# Altium integrated library TI Power Management Linear Regulator Single Channel LDO (0-350mA).IntLib: 1648 symbols (part 10 of 66)
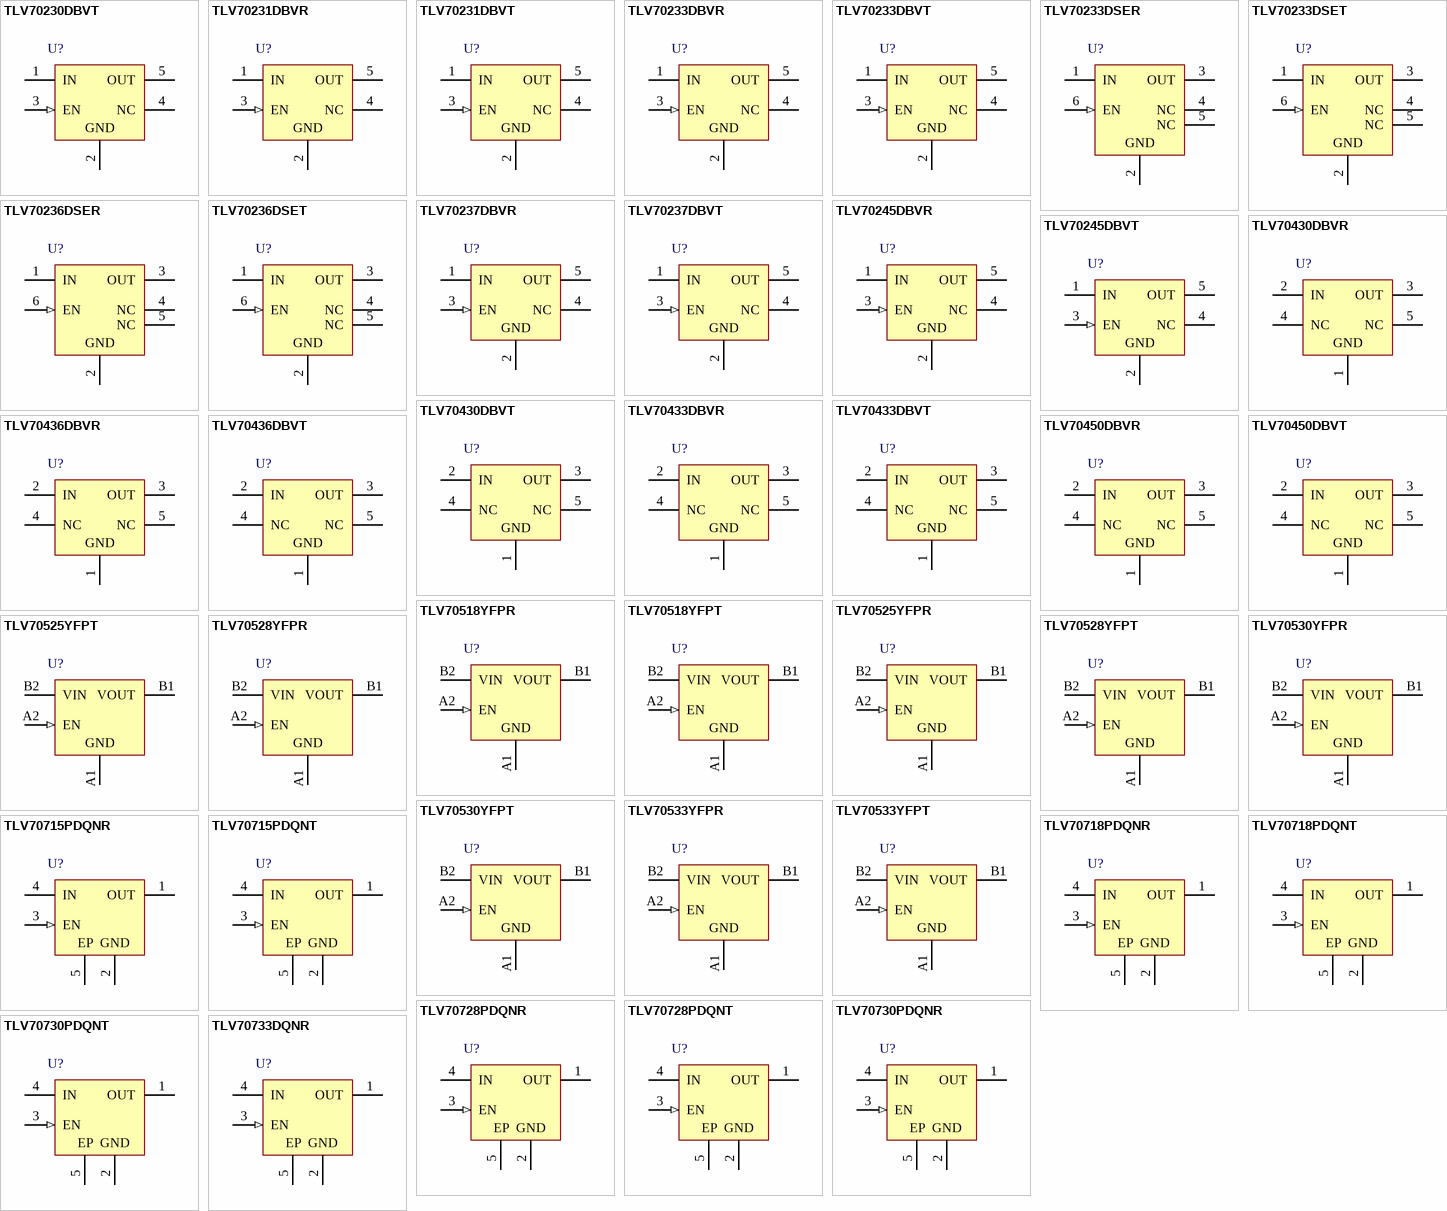
[diagram p51: symbols TLV70230DBVT to TLV70733DQNR]

## TLV70436DBVR
designator U?
Single Output LDO, 150 mA, Fixed 3.6 V Output, 2.5 to 24 V Input, with Ultra-Low IQ, 5-pin SOT-23 (DBV), -40 to 125 degC, Green (RoHS & no Sb/Br); Manufacturer: Texas Instruments; PartNumber: TLV70436DBVR; Accuracy(%): 2; Fixed Output Options(V): 3.6; Iout(Max)(A): 0.15; Iq(Typ)(mA): 0.003; SubFamily: Single Channel LDO; Vdo(Typ)(mV): 400; Vin(Max)(V): 24; Vin(Min)(V): 2.5; DatasheetVersion: SBVS148C; PackageVersion: 4073253-4/K; PackageReference: DBV5; PackageDescription: 5-Pin Plastic Small Outline, Body 1.60 × 2.90 mm, Pitch 0.95 mm; Supplier 1: Digi-Key; Supplier Part Number 1: 296-30551-2-ND; Supplier 2: Digi-Key; Supplier Part Number 2: 296-30551-1-ND; Supplier 3: Digi-Key; Supplier Part Number 3: 296-30551-6-ND; Supplier 4: Newark; Supplier Part Number 4: 06W3534; Supplier 5: Mouser; Supplier Part Number 5: 595-TLV70436DBVR; Eco-Plan: Green (RoHS & no Sb/Br); Vout Adj(Max)(V): 3.6; Vout Adj(Min)(V): 3.6; Mounting Technology: Surface Mount; Code_JEDEC: MO-178; ComponentLink1Description: Manufacturer URL; ComponentLink1URL: http://www.ti.com/; ComponentLink2Description: Datasheet; ComponentLink2URL: http://www.ti.com/general/docs/lit/getliterature.tsp?genericPartNumber=TLV70436&fileType=pdf; ComponentLink3Description: Package Specification; ComponentLink3URL: http://www.ti.com/litv/pdf/mpds018i
footprint TI-DBV5_N (SOT23, 5-Leads, Body 2.9x1.6mm, Pitch 0.95mm, IPC Medium Density)
footprint TI-DBV5_L (SOT23, 5-Leads, Body 2.9x1.6mm, Pitch 0.95mm, IPC High Density)
footprint TI-DBV5_M (SOT23, 5-Leads, Body 2.9x1.6mm, Pitch 0.95mm, IPC Low Density)
pins: 1 GND (power) "Ground", 2 IN (power) "Unregulated input voltage", 3 OUT (power) "Regulated output voltage. Any capacitor 1 uF or greater between this pin and ground is needed for stability", 4 NC "No connection. This pin can be left open or tied to ground for improved thermal performance", 5 NC "No connection. This pin can be left open or tied to ground for improved thermal performance"

## TLV70436DBVT
designator U?
Single Output LDO, 150 mA, Fixed 3.6 V Output, 2.5 to 24 V Input, with Ultra-Low IQ, 5-pin SOT-23 (DBV), -40 to 125 degC, Green (RoHS & no Sb/Br); Manufacturer: Texas Instruments; PartNumber: TLV70436DBVT; Accuracy(%): 2; Fixed Output Options(V): 3.6; Iout(Max)(A): 0.15; Iq(Typ)(mA): 0.003; SubFamily: Single Channel LDO; Vdo(Typ)(mV): 400; Vin(Max)(V): 24; Vin(Min)(V): 2.5; DatasheetVersion: SBVS148C; PackageVersion: 4073253-4/K; PackageReference: DBV5; PackageDescription: 5-Pin Plastic Small Outline, Body 1.60 × 2.90 mm, Pitch 0.95 mm; Supplier 1: Digi-Key; Supplier Part Number 1: TLV70436DBVT-ND; Supplier 2: Farnell; Supplier Part Number 2: 2211353; Supplier 3: Newark; Supplier Part Number 3: 06W3535; Supplier 4: Newark; Supplier Part Number 4: 44W8603; Supplier 5: Mouser; Supplier Part Number 5: 595-TLV70436DBVT; Eco-Plan: Green (RoHS & no Sb/Br); Vout Adj(Max)(V): 3.6; Vout Adj(Min)(V): 3.6; Mounting Technology: Surface Mount; Code_JEDEC: MO-178; ComponentLink1Description: Manufacturer URL; ComponentLink1URL: http://www.ti.com/; ComponentLink2Description: Datasheet; ComponentLink2URL: http://www.ti.com/general/docs/lit/getliterature.tsp?genericPartNumber=TLV70436&fileType=pdf; ComponentLink3Description: Package Specification; ComponentLink3URL: http://www.ti.com/litv/pdf/mpds018i
footprint TI-DBV5_N (SOT23, 5-Leads, Body 2.9x1.6mm, Pitch 0.95mm, IPC Medium Density)
footprint TI-DBV5_L (SOT23, 5-Leads, Body 2.9x1.6mm, Pitch 0.95mm, IPC High Density)
footprint TI-DBV5_M (SOT23, 5-Leads, Body 2.9x1.6mm, Pitch 0.95mm, IPC Low Density)
pins: 1 GND (power) "Ground", 2 IN (power) "Unregulated input voltage", 3 OUT (power) "Regulated output voltage. Any capacitor 1 uF or greater between this pin and ground is needed for stability", 4 NC "No connection. This pin can be left open or tied to ground for improved thermal performance", 5 NC "No connection. This pin can be left open or tied to ground for improved thermal performance"

## TLV70450DBVR
designator U?
Single Output LDO, 150 mA, Fixed 5 V Output, 2.5 to 24 V Input, with Ultra-Low IQ, 5-pin SOT-23 (DBV), -40 to 125 degC, Green (RoHS & no Sb/Br); Manufacturer: Texas Instruments; PartNumber: TLV70450DBVR; Accuracy(%): 2; Fixed Output Options(V): 5; Iout(Max)(A): 0.15; Iq(Typ)(mA): 0.003; SubFamily: Single Channel LDO; Vdo(Typ)(mV): 400; Vin(Max)(V): 24; Vin(Min)(V): 2.5; DatasheetVersion: SBVS148C; PackageVersion: 4073253-4/K; PackageReference: DBV5; PackageDescription: 5-Pin Plastic Small Outline, Body 1.60 × 2.90 mm, Pitch 0.95 mm; Supplier 1: Digi-Key; Supplier Part Number 1: TLV70450DBVR-ND; Supplier 2: Newark; Supplier Part Number 2: 27T6806; Supplier 3: Mouser; Supplier Part Number 3: 595-TLV70450DBVR; Eco-Plan: Green (RoHS & no Sb/Br); Vout Adj(Max)(V): 5; Vout Adj(Min)(V): 5; Mounting Technology: Surface Mount; Code_JEDEC: MO-178; ComponentLink1Description: Manufacturer URL; ComponentLink1URL: http://www.ti.com/; ComponentLink2Description: Datasheet; ComponentLink2URL: http://www.ti.com/general/docs/lit/getliterature.tsp?genericPartNumber=TLV70450&fileType=pdf; ComponentLink3Description: Package Specification; ComponentLink3URL: http://www.ti.com/litv/pdf/mpds018i
footprint TI-DBV5_N (SOT23, 5-Leads, Body 2.9x1.6mm, Pitch 0.95mm, IPC Medium Density)
footprint TI-DBV5_L (SOT23, 5-Leads, Body 2.9x1.6mm, Pitch 0.95mm, IPC High Density)
footprint TI-DBV5_M (SOT23, 5-Leads, Body 2.9x1.6mm, Pitch 0.95mm, IPC Low Density)
pins: 1 GND (power) "Ground", 2 IN (power) "Unregulated input voltage", 3 OUT (power) "Regulated output voltage. Any capacitor 1 uF or greater between this pin and ground is needed for stability", 4 NC "No connection. This pin can be left open or tied to ground for improved thermal performance", 5 NC "No connection. This pin can be left open or tied to ground for improved thermal performance"

## TLV70450DBVT
designator U?
Single Output LDO, 150 mA, Fixed 5 V Output, 2.5 to 24 V Input, with Ultra-Low IQ, 5-pin SOT-23 (DBV), -40 to 125 degC, Green (RoHS & no Sb/Br); Manufacturer: Texas Instruments; PartNumber: TLV70450DBVT; Accuracy(%): 2; Fixed Output Options(V): 5; Iout(Max)(A): 0.15; Iq(Typ)(mA): 0.003; SubFamily: Single Channel LDO; Vdo(Typ)(mV): 400; Vin(Max)(V): 24; Vin(Min)(V): 2.5; DatasheetVersion: SBVS148C; PackageVersion: 4073253-4/K; PackageReference: DBV5; PackageDescription: 5-Pin Plastic Small Outline, Body 1.60 × 2.90 mm, Pitch 0.95 mm; Supplier 1: Digi-Key; Supplier Part Number 1: 296-28171-2-ND; Supplier 2: Digi-Key; Supplier Part Number 2: 296-28171-1-ND; Supplier 3: Digi-Key; Supplier Part Number 3: 296-28171-6-ND; Supplier 4: Newark; Supplier Part Number 4: 27T6807; Supplier 5: Mouser; Supplier Part Number 5: 595-TLV70450DBVT; Eco-Plan: Green (RoHS & no Sb/Br); Vout Adj(Max)(V): 5; Vout Adj(Min)(V): 5; Mounting Technology: Surface Mount; Code_JEDEC: MO-178; ComponentLink1Description: Manufacturer URL; ComponentLink1URL: http://www.ti.com/; ComponentLink2Description: Datasheet; ComponentLink2URL: http://www.ti.com/general/docs/lit/getliterature.tsp?genericPartNumber=TLV70450&fileType=pdf; ComponentLink3Description: Package Specification; ComponentLink3URL: http://www.ti.com/litv/pdf/mpds018i
footprint TI-DBV5_N (SOT23, 5-Leads, Body 2.9x1.6mm, Pitch 0.95mm, IPC Medium Density)
footprint TI-DBV5_L (SOT23, 5-Leads, Body 2.9x1.6mm, Pitch 0.95mm, IPC High Density)
footprint TI-DBV5_M (SOT23, 5-Leads, Body 2.9x1.6mm, Pitch 0.95mm, IPC Low Density)
pins: 1 GND (power) "Ground", 2 IN (power) "Unregulated input voltage", 3 OUT (power) "Regulated output voltage. Any capacitor 1 uF or greater between this pin and ground is needed for stability", 4 NC "No connection. This pin can be left open or tied to ground for improved thermal performance", 5 NC "No connection. This pin can be left open or tied to ground for improved thermal performance"

## TLV70518YFPR
designator U?
Single Output Low Noise LDO, 200 mA, Fixed 1.8 V Output, 2 to 5.5 V Input, with Low IQ, 4-pin DSBGA (YFP), -40 to 125 degC, Green (RoHS & no Sb/Br); Manufacturer: Texas Instruments; PartNumber: TLV70518YFPR; Accuracy(%): 0.5; Fixed Output Options(V): 1.8; Iout(Max)(A): 0.2; Iq(Typ)(mA): 0.03; Rating: Catalog; SubFamily: Single Channel LDO; Vdo(Typ)(mV): 145; Vin(Max)(V): 5.5; Vin(Min)(V): 2; DatasheetVersion: SBVS151C; PackageVersion: 4206986-2/R; PackageReference: YFP4-776X776DE; PackageDescription: 4-Pin Silicon Grid Array, Body 0.776 x 0.776 mm, Pitch 0.4 mm; Supplier 1: Digi-Key; Supplier Part Number 1: 296-30106-2-ND; Supplier 2: Digi-Key; Supplier Part Number 2: 296-30106-1-ND; Supplier 3: Digi-Key; Supplier Part Number 3: 296-30106-6-ND; Supplier 4: Mouser; Supplier Part Number 4: 595-TLV70518YFPR; Eco-Plan: Green (RoHS & no Sb/Br); Vout Adj(Max)(V): 1.8; Vout Adj(Min)(V): 1.8; Mounting Technology: Surface Mount; ComponentLink1Description: Manufacturer URL; ComponentLink1URL: http://www.ti.com/; ComponentLink2Description: Datasheet; ComponentLink2URL: http://www.ti.com/general/docs/lit/getliterature.tsp?genericPartNumber=TLV70518&fileType=pdf; ComponentLink3Description: Package Specification; ComponentLink3URL: http://www.ti.com/lit/ds/symlink/tlv70518.pdf
footprint TI-YFP4-776X776DE (BGA, 4-Balls, Body 7.76x7.76mm, Pitch 0.4mm)
pins: A1 GND (power) "Ground pin", A2 EN (in) "Enable pin. Driving EN over 0.9 V turns on the regulator. Driving EN below 0.4 V puts the regulator into shutdown mode, thus reducing operating current to 1 uA, nominal.", B1 VOUT (power) "Regulated output voltage pin. A small 1-uF ceramic capacitor is required to be placed from this pin to ground to assure stability. See the Input and Output Capacitor Requirements section for more details.", B2 VIN (power) "Input pin. A small 1-uF ceramic capacitor is recommended to be placed from this pin to ground for good transient performance. See the Input and Output Capacitor Requirements section for more details."

## TLV70518YFPT
designator U?
Single Output Low Noise LDO, 200 mA, Fixed 1.8 V Output, 2 to 5.5 V Input, with Low IQ, 4-pin DSBGA (YFP), -40 to 125 degC, Green (RoHS & no Sb/Br); Manufacturer: Texas Instruments; PartNumber: TLV70518YFPT; Accuracy(%): 0.5; Fixed Output Options(V): 1.8; Iout(Max)(A): 0.2; Iq(Typ)(mA): 0.03; Rating: Catalog; SubFamily: Single Channel LDO; Vdo(Typ)(mV): 145; Vin(Max)(V): 5.5; Vin(Min)(V): 2; DatasheetVersion: SBVS151C; PackageVersion: 4206986-2/R; PackageReference: YFP4-776X776DE; PackageDescription: 4-Pin Silicon Grid Array, Body 0.776 x 0.776 mm, Pitch 0.4 mm; Supplier 1: Digi-Key; Supplier Part Number 1: 296-30170-2-ND; Supplier 2: Digi-Key; Supplier Part Number 2: 296-30170-1-ND; Supplier 3: Digi-Key; Supplier Part Number 3: 296-30170-6-ND; Supplier 4: Farnell; Supplier Part Number 4: 2078541; Supplier 5: Newark; Supplier Part Number 5: 82T9714; Supplier 6: Mouser; Supplier Part Number 6: 595-TLV70518YFPT; Eco-Plan: Green (RoHS & no Sb/Br); Vout Adj(Max)(V): 1.8; Vout Adj(Min)(V): 1.8; Mounting Technology: Surface Mount; ComponentLink1Description: Manufacturer URL; ComponentLink1URL: http://www.ti.com/; ComponentLink2Description: Datasheet; ComponentLink2URL: http://www.ti.com/general/docs/lit/getliterature.tsp?genericPartNumber=TLV70518&fileType=pdf; ComponentLink3Description: Package Specification; ComponentLink3URL: http://www.ti.com/lit/ds/symlink/tlv70518.pdf
footprint TI-YFP4-776X776DE (BGA, 4-Balls, Body 7.76x7.76mm, Pitch 0.4mm)
pins: A1 GND (power) "Ground pin", A2 EN (in) "Enable pin. Driving EN over 0.9 V turns on the regulator. Driving EN below 0.4 V puts the regulator into shutdown mode, thus reducing operating current to 1 uA, nominal.", B1 VOUT (power) "Regulated output voltage pin. A small 1-uF ceramic capacitor is required to be placed from this pin to ground to assure stability. See the Input and Output Capacitor Requirements section for more details.", B2 VIN (power) "Input pin. A small 1-uF ceramic capacitor is recommended to be placed from this pin to ground for good transient performance. See the Input and Output Capacitor Requirements section for more details."

## TLV70525YFPR
designator U?
Single Output Low Noise LDO, 200 mA, Fixed 2.5 V Output, 2 to 5.5 V Input, with Low IQ, 4-pin DSBGA (YFP), -40 to 125 degC, Green (RoHS & no Sb/Br); Manufacturer: Texas Instruments; PartNumber: TLV70525YFPR; Accuracy(%): 0.5; Fixed Output Options(V): 2.5; Iout(Max)(A): 0.2; Iq(Typ)(mA): 0.03; Rating: Catalog; SubFamily: Single Channel LDO; Vdo(Typ)(mV): 145; Vin(Max)(V): 5.5; Vin(Min)(V): 2; DatasheetVersion: SBVS151C; PackageVersion: 4206986-2/R; PackageReference: YFP4-776X776DE; PackageDescription: 4-Pin Silicon Grid Array, Body 0.776 x 0.776 mm, Pitch 0.4 mm; Supplier 1: Digi-Key; Supplier Part Number 1: 296-30221-2-ND; Supplier 2: Digi-Key; Supplier Part Number 2: 296-30221-1-ND; Supplier 3: Digi-Key; Supplier Part Number 3: 296-30221-6-ND; Supplier 4: Farnell; Supplier Part Number 4: 2095833; Supplier 5: Newark; Supplier Part Number 5: 82T4190; Supplier 6: Mouser; Supplier Part Number 6: 595-TLV70525YFPR; Eco-Plan: Green (RoHS & no Sb/Br); Vout Adj(Max)(V): 2.5; Vout Adj(Min)(V): 2.5; Mounting Technology: Surface Mount; ComponentLink1Description: Manufacturer URL; ComponentLink1URL: http://www.ti.com/; ComponentLink2Description: Datasheet; ComponentLink2URL: http://www.ti.com/general/docs/lit/getliterature.tsp?genericPartNumber=TLV70525&fileType=pdf; ComponentLink3Description: Package Specification; ComponentLink3URL: http://www.ti.com/lit/ds/symlink/tlv70518.pdf
footprint TI-YFP4-776X776DE (BGA, 4-Balls, Body 7.76x7.76mm, Pitch 0.4mm)
pins: A1 GND (power) "Ground pin", A2 EN (in) "Enable pin. Driving EN over 0.9 V turns on the regulator. Driving EN below 0.4 V puts the regulator into shutdown mode, thus reducing operating current to 1 uA, nominal.", B1 VOUT (power) "Regulated output voltage pin. A small 1-uF ceramic capacitor is required to be placed from this pin to ground to assure stability. See the Input and Output Capacitor Requirements section for more details.", B2 VIN (power) "Input pin. A small 1-uF ceramic capacitor is recommended to be placed from this pin to ground for good transient performance. See the Input and Output Capacitor Requirements section for more details."

## TLV70525YFPT
designator U?
Single Output Low Noise LDO, 200 mA, Fixed 2.5 V Output, 2 to 5.5 V Input, with Low IQ, 4-pin DSBGA (YFP), -40 to 125 degC, Green (RoHS & no Sb/Br); Manufacturer: Texas Instruments; PartNumber: TLV70525YFPT; Accuracy(%): 0.5; Fixed Output Options(V): 2.5; Iout(Max)(A): 0.2; Iq(Typ)(mA): 0.03; Rating: Catalog; SubFamily: Single Channel LDO; Vdo(Typ)(mV): 145; Vin(Max)(V): 5.5; Vin(Min)(V): 2; DatasheetVersion: SBVS151C; PackageVersion: 4206986-2/R; PackageReference: YFP4-776X776DE; PackageDescription: 4-Pin Silicon Grid Array, Body 0.776 x 0.776 mm, Pitch 0.4 mm; Supplier 1: Digi-Key; Supplier Part Number 1: 296-30262-2-ND; Supplier 2: Digi-Key; Supplier Part Number 2: 296-30262-1-ND; Supplier 3: Digi-Key; Supplier Part Number 3: 296-30262-6-ND; Supplier 4: Mouser; Supplier Part Number 4: 595-TLV70525YFPT; Eco-Plan: Green (RoHS & no Sb/Br); Vout Adj(Max)(V): 2.5; Vout Adj(Min)(V): 2.5; Mounting Technology: Surface Mount; ComponentLink1Description: Manufacturer URL; ComponentLink1URL: http://www.ti.com/; ComponentLink2Description: Datasheet; ComponentLink2URL: http://www.ti.com/general/docs/lit/getliterature.tsp?genericPartNumber=TLV70525&fileType=pdf; ComponentLink3Description: Package Specification; ComponentLink3URL: http://www.ti.com/lit/ds/symlink/tlv70518.pdf
footprint TI-YFP4-776X776DE (BGA, 4-Balls, Body 7.76x7.76mm, Pitch 0.4mm)
pins: A1 GND (power) "Ground pin", A2 EN (in) "Enable pin. Driving EN over 0.9 V turns on the regulator. Driving EN below 0.4 V puts the regulator into shutdown mode, thus reducing operating current to 1 uA, nominal.", B1 VOUT (power) "Regulated output voltage pin. A small 1-uF ceramic capacitor is required to be placed from this pin to ground to assure stability. See the Input and Output Capacitor Requirements section for more details.", B2 VIN (power) "Input pin. A small 1-uF ceramic capacitor is recommended to be placed from this pin to ground for good transient performance. See the Input and Output Capacitor Requirements section for more details."

## TLV70528YFPR
designator U?
Single Output Low Noise LDO, 200 mA, Fixed 2.8 V Output, 2 to 5.5 V Input, with Low IQ, 4-pin DSBGA (YFP), -40 to 125 degC, Green (RoHS & no Sb/Br); Manufacturer: Texas Instruments; PartNumber: TLV70528YFPR; Accuracy(%): 0.5; Fixed Output Options(V): 2.8; Iout(Max)(A): 0.2; Iq(Typ)(mA): 0.03; Rating: Catalog; SubFamily: Single Channel LDO; Vdo(Typ)(mV): 145; Vin(Max)(V): 5.5; Vin(Min)(V): 2; DatasheetVersion: SBVS151C; PackageVersion: 4206986-2/R; PackageReference: YFP4-776X776DE; PackageDescription: 4-Pin Silicon Grid Array, Body 0.776 x 0.776 mm, Pitch 0.4 mm; Supplier 1: Digi-Key; Supplier Part Number 1: 296-30107-2-ND; Supplier 2: Digi-Key; Supplier Part Number 2: 296-30107-1-ND; Supplier 3: Digi-Key; Supplier Part Number 3: 296-30107-6-ND; Supplier 4: Newark; Supplier Part Number 4: 76T8058; Supplier 5: Mouser; Supplier Part Number 5: 595-TLV70528YFPR; Eco-Plan: Green (RoHS & no Sb/Br); Vout Adj(Max)(V): 2.8; Vout Adj(Min)(V): 2.8; Mounting Technology: Surface Mount; ComponentLink1Description: Manufacturer URL; ComponentLink1URL: http://www.ti.com/; ComponentLink2Description: Datasheet; ComponentLink2URL: http://www.ti.com/general/docs/lit/getliterature.tsp?genericPartNumber=TLV70528&fileType=pdf; ComponentLink3Description: Package Specification; ComponentLink3URL: http://www.ti.com/lit/ds/symlink/tlv70518.pdf
footprint TI-YFP4-776X776DE (BGA, 4-Balls, Body 7.76x7.76mm, Pitch 0.4mm)
pins: A1 GND (power) "Ground pin", A2 EN (in) "Enable pin. Driving EN over 0.9 V turns on the regulator. Driving EN below 0.4 V puts the regulator into shutdown mode, thus reducing operating current to 1 uA, nominal.", B1 VOUT (power) "Regulated output voltage pin. A small 1-uF ceramic capacitor is required to be placed from this pin to ground to assure stability. See the Input and Output Capacitor Requirements section for more details.", B2 VIN (power) "Input pin. A small 1-uF ceramic capacitor is recommended to be placed from this pin to ground for good transient performance. See the Input and Output Capacitor Requirements section for more details."

## TLV70528YFPT
designator U?
Single Output Low Noise LDO, 200 mA, Fixed 2.8 V Output, 2 to 5.5 V Input, with Low IQ, 4-pin DSBGA (YFP), -40 to 125 degC, Green (RoHS & no Sb/Br); Manufacturer: Texas Instruments; PartNumber: TLV70528YFPT; Accuracy(%): 0.5; Fixed Output Options(V): 2.8; Iout(Max)(A): 0.2; Iq(Typ)(mA): 0.03; Rating: Catalog; SubFamily: Single Channel LDO; Vdo(Typ)(mV): 145; Vin(Max)(V): 5.5; Vin(Min)(V): 2; DatasheetVersion: SBVS151C; PackageVersion: 4206986-2/R; PackageReference: YFP4-776X776DE; PackageDescription: 4-Pin Silicon Grid Array, Body 0.776 x 0.776 mm, Pitch 0.4 mm; Supplier 1: Digi-Key; Supplier Part Number 1: 296-30171-2-ND; Supplier 2: Digi-Key; Supplier Part Number 2: 296-30171-1-ND; Supplier 3: Digi-Key; Supplier Part Number 3: 296-30171-6-ND; Supplier 4: Farnell; Supplier Part Number 4: 2078543; Supplier 5: Newark; Supplier Part Number 5: 82T9715; Supplier 6: Mouser; Supplier Part Number 6: 595-TLV70528YFPT; Eco-Plan: Green (RoHS & no Sb/Br); Vout Adj(Max)(V): 2.8; Vout Adj(Min)(V): 2.8; Mounting Technology: Surface Mount; ComponentLink1Description: Manufacturer URL; ComponentLink1URL: http://www.ti.com/; ComponentLink2Description: Datasheet; ComponentLink2URL: http://www.ti.com/general/docs/lit/getliterature.tsp?genericPartNumber=TLV70528&fileType=pdf; ComponentLink3Description: Package Specification; ComponentLink3URL: http://www.ti.com/lit/ds/symlink/tlv70518.pdf
footprint TI-YFP4-776X776DE (BGA, 4-Balls, Body 7.76x7.76mm, Pitch 0.4mm)
pins: A1 GND (power) "Ground pin", A2 EN (in) "Enable pin. Driving EN over 0.9 V turns on the regulator. Driving EN below 0.4 V puts the regulator into shutdown mode, thus reducing operating current to 1 uA, nominal.", B1 VOUT (power) "Regulated output voltage pin. A small 1-uF ceramic capacitor is required to be placed from this pin to ground to assure stability. See the Input and Output Capacitor Requirements section for more details.", B2 VIN (power) "Input pin. A small 1-uF ceramic capacitor is recommended to be placed from this pin to ground for good transient performance. See the Input and Output Capacitor Requirements section for more details."

## TLV70530YFPR
designator U?
Single Output Low Noise LDO, 200 mA, Fixed 3 V Output, 2 to 5.5 V Input, with Low IQ, 4-pin DSBGA (YFP), -40 to 125 degC, Green (RoHS & no Sb/Br); Manufacturer: Texas Instruments; PartNumber: TLV70530YFPR; Accuracy(%): 0.5; Fixed Output Options(V): 3; Iout(Max)(A): 0.2; Iq(Typ)(mA): 0.03; Rating: Catalog; SubFamily: Single Channel LDO; Vdo(Typ)(mV): 145; Vin(Max)(V): 5.5; Vin(Min)(V): 2; DatasheetVersion: SBVS151C; PackageVersion: 4206986-2/R; PackageReference: YFP4-776X776DE; PackageDescription: 4-Pin Silicon Grid Array, Body 0.776 x 0.776 mm, Pitch 0.4 mm; Supplier 1: Digi-Key; Supplier Part Number 1: 296-30222-2-ND; Supplier 2: Digi-Key; Supplier Part Number 2: 296-30222-1-ND; Supplier 3: Digi-Key; Supplier Part Number 3: 296-30222-6-ND; Supplier 4: Farnell; Supplier Part Number 4: 2095834; Supplier 5: Mouser; Supplier Part Number 5: 595-TLV70530YFPR; Eco-Plan: Green (RoHS & no Sb/Br); Vout Adj(Max)(V): 3; Vout Adj(Min)(V): 3; Mounting Technology: Surface Mount; ComponentLink1Description: Manufacturer URL; ComponentLink1URL: http://www.ti.com/; ComponentLink2Description: Datasheet; ComponentLink2URL: http://www.ti.com/general/docs/lit/getliterature.tsp?genericPartNumber=TLV70530&fileType=pdf; ComponentLink3Description: Package Specification; ComponentLink3URL: http://www.ti.com/lit/ds/symlink/tlv70518.pdf
footprint TI-YFP4-776X776DE (BGA, 4-Balls, Body 7.76x7.76mm, Pitch 0.4mm)
pins: A1 GND (power) "Ground pin", A2 EN (in) "Enable pin. Driving EN over 0.9 V turns on the regulator. Driving EN below 0.4 V puts the regulator into shutdown mode, thus reducing operating current to 1 uA, nominal.", B1 VOUT (power) "Regulated output voltage pin. A small 1-uF ceramic capacitor is required to be placed from this pin to ground to assure stability. See the Input and Output Capacitor Requirements section for more details.", B2 VIN (power) "Input pin. A small 1-uF ceramic capacitor is recommended to be placed from this pin to ground for good transient performance. See the Input and Output Capacitor Requirements section for more details."

## TLV70530YFPT
designator U?
Single Output Low Noise LDO, 200 mA, Fixed 3 V Output, 2 to 5.5 V Input, with Low IQ, 4-pin DSBGA (YFP), -40 to 125 degC, Green (RoHS & no Sb/Br); Manufacturer: Texas Instruments; PartNumber: TLV70530YFPT; Accuracy(%): 0.5; Fixed Output Options(V): 3; Iout(Max)(A): 0.2; Iq(Typ)(mA): 0.03; Rating: Catalog; SubFamily: Single Channel LDO; Vdo(Typ)(mV): 145; Vin(Max)(V): 5.5; Vin(Min)(V): 2; DatasheetVersion: SBVS151C; PackageVersion: 4206986-2/R; PackageReference: YFP4-776X776DE; PackageDescription: 4-Pin Silicon Grid Array, Body 0.776 x 0.776 mm, Pitch 0.4 mm; Supplier 1: Digi-Key; Supplier Part Number 1: 296-30263-2-ND; Supplier 2: Digi-Key; Supplier Part Number 2: 296-30263-1-ND; Supplier 3: Digi-Key; Supplier Part Number 3: 296-30263-6-ND; Supplier 4: Newark; Supplier Part Number 4: 82T4193; Supplier 5: Mouser; Supplier Part Number 5: 595-TLV70530YFPT; Eco-Plan: Green (RoHS & no Sb/Br); Vout Adj(Max)(V): 3; Vout Adj(Min)(V): 3; Mounting Technology: Surface Mount; ComponentLink1Description: Manufacturer URL; ComponentLink1URL: http://www.ti.com/; ComponentLink2Description: Datasheet; ComponentLink2URL: http://www.ti.com/general/docs/lit/getliterature.tsp?genericPartNumber=TLV70530&fileType=pdf; ComponentLink3Description: Package Specification; ComponentLink3URL: http://www.ti.com/lit/ds/symlink/tlv70518.pdf
footprint TI-YFP4-776X776DE (BGA, 4-Balls, Body 7.76x7.76mm, Pitch 0.4mm)
pins: A1 GND (power) "Ground pin", A2 EN (in) "Enable pin. Driving EN over 0.9 V turns on the regulator. Driving EN below 0.4 V puts the regulator into shutdown mode, thus reducing operating current to 1 uA, nominal.", B1 VOUT (power) "Regulated output voltage pin. A small 1-uF ceramic capacitor is required to be placed from this pin to ground to assure stability. See the Input and Output Capacitor Requirements section for more details.", B2 VIN (power) "Input pin. A small 1-uF ceramic capacitor is recommended to be placed from this pin to ground for good transient performance. See the Input and Output Capacitor Requirements section for more details."

## TLV70533YFPR
designator U?
Single Output Low Noise LDO, 200 mA, Fixed 3.3 V Output, 2 to 5.5 V Input, with Low IQ, 4-pin DSBGA (YFP), -40 to 125 degC, Green (RoHS & no Sb/Br); Manufacturer: Texas Instruments; PartNumber: TLV70533YFPR; Accuracy(%): 0.5; Fixed Output Options(V): 3.3; Iout(Max)(A): 0.2; Iq(Typ)(mA): 0.03; Rating: Catalog; SubFamily: Single Channel LDO; Vdo(Typ)(mV): 145; Vin(Max)(V): 5.5; Vin(Min)(V): 2; DatasheetVersion: SBVS151C; PackageVersion: 4206986-2/R; PackageReference: YFP4-776X776DE; PackageDescription: 4-Pin Silicon Grid Array, Body 0.776 x 0.776 mm, Pitch 0.4 mm; Supplier 1: Digi-Key; Supplier Part Number 1: 296-30108-2-ND; Supplier 2: Digi-Key; Supplier Part Number 2: 296-30108-1-ND; Supplier 3: Digi-Key; Supplier Part Number 3: 296-30108-6-ND; Supplier 4: Mouser; Supplier Part Number 4: 595-TLV70533YFPR; Eco-Plan: Green (RoHS & no Sb/Br); Vout Adj(Max)(V): 3.3; Vout Adj(Min)(V): 3.3; Mounting Technology: Surface Mount; ComponentLink1Description: Manufacturer URL; ComponentLink1URL: http://www.ti.com/; ComponentLink2Description: Datasheet; ComponentLink2URL: http://www.ti.com/general/docs/lit/getliterature.tsp?genericPartNumber=TLV70533&fileType=pdf; ComponentLink3Description: Package Specification; ComponentLink3URL: http://www.ti.com/lit/ds/symlink/tlv70518.pdf
footprint TI-YFP4-776X776DE (BGA, 4-Balls, Body 7.76x7.76mm, Pitch 0.4mm)
pins: A1 GND (power) "Ground pin", A2 EN (in) "Enable pin. Driving EN over 0.9 V turns on the regulator. Driving EN below 0.4 V puts the regulator into shutdown mode, thus reducing operating current to 1 uA, nominal.", B1 VOUT (power) "Regulated output voltage pin. A small 1-uF ceramic capacitor is required to be placed from this pin to ground to assure stability. See the Input and Output Capacitor Requirements section for more details.", B2 VIN (power) "Input pin. A small 1-uF ceramic capacitor is recommended to be placed from this pin to ground for good transient performance. See the Input and Output Capacitor Requirements section for more details."

## TLV70533YFPT
designator U?
Single Output Low Noise LDO, 200 mA, Fixed 3.3 V Output, 2 to 5.5 V Input, with Low IQ, 4-pin DSBGA (YFP), -40 to 125 degC, Green (RoHS & no Sb/Br); Manufacturer: Texas Instruments; PartNumber: TLV70533YFPT; Accuracy(%): 0.5; Fixed Output Options(V): 3.3; Iout(Max)(A): 0.2; Iq(Typ)(mA): 0.03; Rating: Catalog; SubFamily: Single Channel LDO; Vdo(Typ)(mV): 145; Vin(Max)(V): 5.5; Vin(Min)(V): 2; DatasheetVersion: SBVS151C; PackageVersion: 4206986-2/R; PackageReference: YFP4-776X776DE; PackageDescription: 4-Pin Silicon Grid Array, Body 0.776 x 0.776 mm, Pitch 0.4 mm; Supplier 1: Digi-Key; Supplier Part Number 1: 296-30172-2-ND; Supplier 2: Digi-Key; Supplier Part Number 2: 296-30172-1-ND; Supplier 3: Digi-Key; Supplier Part Number 3: 296-30172-6-ND; Supplier 4: Farnell; Supplier Part Number 4: 2078548; Supplier 5: Mouser; Supplier Part Number 5: 595-TLV70533YFPT; Eco-Plan: Green (RoHS & no Sb/Br); Vout Adj(Max)(V): 3.3; Vout Adj(Min)(V): 3.3; Mounting Technology: Surface Mount; ComponentLink1Description: Manufacturer URL; ComponentLink1URL: http://www.ti.com/; ComponentLink2Description: Datasheet; ComponentLink2URL: http://www.ti.com/general/docs/lit/getliterature.tsp?genericPartNumber=TLV70533&fileType=pdf; ComponentLink3Description: Package Specification; ComponentLink3URL: http://www.ti.com/lit/ds/symlink/tlv70518.pdf
footprint TI-YFP4-776X776DE (BGA, 4-Balls, Body 7.76x7.76mm, Pitch 0.4mm)
pins: A1 GND (power) "Ground pin", A2 EN (in) "Enable pin. Driving EN over 0.9 V turns on the regulator. Driving EN below 0.4 V puts the regulator into shutdown mode, thus reducing operating current to 1 uA, nominal.", B1 VOUT (power) "Regulated output voltage pin. A small 1-uF ceramic capacitor is required to be placed from this pin to ground to assure stability. See the Input and Output Capacitor Requirements section for more details.", B2 VIN (power) "Input pin. A small 1-uF ceramic capacitor is recommended to be placed from this pin to ground for good transient performance. See the Input and Output Capacitor Requirements section for more details."

## TLV70715PDQNR
designator U?
Single Output Low Noise LDO, 200 mA, Fixed 1.5 V Output, 2 to 5.5 V Input, 4-pin X2SON(DQN), -40 to 85 degC, Green (RoHS & no Sb/Br); Manufacturer: Texas Instruments; PartNumber: TLV70715PDQNR; Accuracy(%): 1.5; Iout(Max)(A): 0.2; Iq(Typ)(mA): 0.02; SubFamily: Single Channel LDO; Vdo(Typ)(mV): 250; Vin(Max)(V): 5.5; Vin(Min)(V): 2; DatasheetVersion: SBVS153C; PackageVersion: 4210367/D; PackageReference: DQN4-480X480TP; PackageDescription: 4-Pin Plastic Small Outline, Body 1 x 1 mm, Pitch 0.65 mm; Supplier 1: Digi-Key; Supplier Part Number 1: TLV70715PDQNR-ND; Supplier 2: Newark; Supplier Part Number 2: 45W9397; Supplier 3: Mouser; Supplier Part Number 3: 595-TLV70715PDQNR; Eco-Plan: Green (RoHS & no Sb/Br); Fixed Output Options(V): 1.5; Vout Adj(Max)(V): 1.5; Vout Adj(Min)(V): 1.5; Mounting Technology: Surface Mount; ComponentLink1Description: Manufacturer URL; ComponentLink1URL: http://www.ti.com/; ComponentLink2Description: Datasheet; ComponentLink2URL: http://www.ti.com/general/docs/lit/getliterature.tsp?genericPartNumber=TLV70715P&fileType=pdf
footprint TI-DQN4-480X480TP_V (SON, 4-Leads, Body 1x1mm, Pitch 0.65mm, Thermal Pad 0.5x0.5mm)
pins: 1 OUT (power) "Regulated output voltage pin. A small 1 uF ceramic capacitor is needed from this pin to ground to assure stability.", 2 GND (power) "Ground pin", 3 EN (in) "Enable pin. Driving EN over 0.9 V turns on the regulator. Driving EN below 0.4 V puts the regulator into shutdown mode For TLV707xxP, output voltage is discharged through an internal 120-ohm resistor when device is shut down.", 4 IN (power) "Input pin. A small 1uF ceramic capacitor is recommended from this pin to ground for good transient performance.", 5 EP "Exposed thermal pad"

## TLV70715PDQNT
designator U?
Single Output Low Noise LDO, 200 mA, Fixed 1.5 V Output, 2 to 5.5 V Input, 4-pin X2SON(DQN), -40 to 85 degC, Green (RoHS & no Sb/Br); Manufacturer: Texas Instruments; PartNumber: TLV70715PDQNT; Accuracy(%): 1.5; Iout(Max)(A): 0.2; Iq(Typ)(mA): 0.02; SubFamily: Single Channel LDO; Vdo(Typ)(mV): 250; Vin(Max)(V): 5.5; Vin(Min)(V): 2; DatasheetVersion: SBVS153C; PackageVersion: 4210367/D; PackageReference: DQN4-480X480TP; PackageDescription: 4-Pin Plastic Small Outline, Body 1 x 1 mm, Pitch 0.65 mm; Supplier 1: Digi-Key; Supplier Part Number 1: 296-35061-2-ND; Supplier 2: Digi-Key; Supplier Part Number 2: 296-35061-1-ND; Supplier 3: Digi-Key; Supplier Part Number 3: 296-35061-6-ND; Supplier 4: Newark; Supplier Part Number 4: 45W9398; Supplier 5: Mouser; Supplier Part Number 5: 595-TLV70715PDQNT; Eco-Plan: Green (RoHS & no Sb/Br); Fixed Output Options(V): 1.5; Vout Adj(Max)(V): 1.5; Vout Adj(Min)(V): 1.5; Mounting Technology: Surface Mount; ComponentLink1Description: Manufacturer URL; ComponentLink1URL: http://www.ti.com/; ComponentLink2Description: Datasheet; ComponentLink2URL: http://www.ti.com/general/docs/lit/getliterature.tsp?genericPartNumber=TLV70715P&fileType=pdf
footprint TI-DQN4-480X480TP_V (SON, 4-Leads, Body 1x1mm, Pitch 0.65mm, Thermal Pad 0.5x0.5mm)
pins: 1 OUT (power) "Regulated output voltage pin. A small 1 uF ceramic capacitor is needed from this pin to ground to assure stability.", 2 GND (power) "Ground pin", 3 EN (in) "Enable pin. Driving EN over 0.9 V turns on the regulator. Driving EN below 0.4 V puts the regulator into shutdown mode For TLV707xxP, output voltage is discharged through an internal 120-ohm resistor when device is shut down.", 4 IN (power) "Input pin. A small 1uF ceramic capacitor is recommended from this pin to ground for good transient performance.", 5 EP "Exposed thermal pad"

## TLV70718PDQNR
designator U?
Single Output Low Noise LDO, 200 mA, Fixed 1.8 V Output, 2 to 5.5 V Input, 4-pin X2SON (DQN), -40 to 85 degC, Green (RoHS & no Sb/Br); Manufacturer: Texas Instruments; PartNumber: TLV70718PDQNR; Accuracy(%): 1.5; Fixed Output Options(V): 1.8; Iout(Max)(A): 0.2; Iq(Typ)(mA): 0.02; SubFamily: Single Channel LDO; Vdo(Typ)(mV): 250; Vin(Max)(V): 5.5; Vin(Min)(V): 2; DatasheetVersion: SBVS153C; PackageVersion: 4210367/D; PackageReference: DQN4-480X480TP; PackageDescription: 4-Pin Plastic Small Outline, Body 1 x 1 mm, Pitch 0.65 mm; Supplier 1: Digi-Key; Supplier Part Number 1: TLV70718PDQNR-ND; Supplier 2: Newark; Supplier Part Number 2: 40T5399; Supplier 3: Mouser; Supplier Part Number 3: 595-TLV70718PDQNR; Eco-Plan: Green (RoHS & no Sb/Br); Vout Adj(Max)(V): 1.8; Vout Adj(Min)(V): 1.8; Mounting Technology: Surface Mount; ComponentLink1Description: Manufacturer URL; ComponentLink1URL: http://www.ti.com/; ComponentLink2Description: Datasheet; ComponentLink2URL: http://www.ti.com/general/docs/lit/getliterature.tsp?genericPartNumber=TLV70718P&fileType=pdf
footprint TI-DQN4-480X480TP_V (SON, 4-Leads, Body 1x1mm, Pitch 0.65mm, Thermal Pad 0.5x0.5mm)
pins: 1 OUT (power) "Regulated output voltage pin. A small 1 uF ceramic capacitor is needed from this pin to ground to assure stability.", 2 GND (power) "Ground pin", 3 EN (in) "Enable pin. Driving EN over 0.9 V turns on the regulator. Driving EN below 0.4 V puts the regulator into shutdown mode For TLV707xxP, output voltage is discharged through an internal 120-ohm resistor when device is shut down.", 4 IN (power) "Input pin. A small 1uF ceramic capacitor is recommended from this pin to ground for good transient performance.", 5 EP "Exposed thermal pad"

## TLV70718PDQNT
designator U?
Single Output Low Noise LDO, 200 mA, Fixed 1.8 V Output, 2 to 5.5 V Input, 4-pin X2SON (DQN), -40 to 85 degC, Green (RoHS & no Sb/Br); Manufacturer: Texas Instruments; PartNumber: TLV70718PDQNT; Accuracy(%): 1.5; Fixed Output Options(V): 1.8; Iout(Max)(A): 0.2; Iq(Typ)(mA): 0.02; SubFamily: Single Channel LDO; Vdo(Typ)(mV): 250; Vin(Max)(V): 5.5; Vin(Min)(V): 2; DatasheetVersion: SBVS153C; PackageVersion: 4210367/D; PackageReference: DQN4-480X480TP; PackageDescription: 4-Pin Plastic Small Outline, Body 1 x 1 mm, Pitch 0.65 mm; Supplier 1: Arrow; Supplier Part Number 1: 48874414S9032483N2413; Supplier 2: Digi-Key; Supplier Part Number 2: 296-28351-2-ND; Supplier 3: Digi-Key; Supplier Part Number 3: 296-28351-1-ND; Supplier 4: Digi-Key; Supplier Part Number 4: 296-28351-6-ND; Supplier 5: Mouser; Supplier Part Number 5: 595-TLV70718PDQNT; Eco-Plan: Green (RoHS & no Sb/Br); Vout Adj(Max)(V): 1.8; Vout Adj(Min)(V): 1.8; Mounting Technology: Surface Mount; ComponentLink1Description: Manufacturer URL; ComponentLink1URL: http://www.ti.com/; ComponentLink2Description: Datasheet; ComponentLink2URL: http://www.ti.com/general/docs/lit/getliterature.tsp?genericPartNumber=TLV70718P&fileType=pdf
footprint TI-DQN4-480X480TP_V (SON, 4-Leads, Body 1x1mm, Pitch 0.65mm, Thermal Pad 0.5x0.5mm)
pins: 1 OUT (power) "Regulated output voltage pin. A small 1 uF ceramic capacitor is needed from this pin to ground to assure stability.", 2 GND (power) "Ground pin", 3 EN (in) "Enable pin. Driving EN over 0.9 V turns on the regulator. Driving EN below 0.4 V puts the regulator into shutdown mode For TLV707xxP, output voltage is discharged through an internal 120-ohm resistor when device is shut down.", 4 IN (power) "Input pin. A small 1uF ceramic capacitor is recommended from this pin to ground for good transient performance.", 5 EP "Exposed thermal pad"

## TLV70728PDQNR
designator U?
Single Output Low Noise LDO, 200 mA, Fixed 2.8 V Output, 2 to 5.5 V Input, 4-pin X2SON (DQN), -40 to 85 degC, Green (RoHS & no Sb/Br); Manufacturer: Texas Instruments; PartNumber: TLV70728PDQNR; Accuracy(%): 1.5; Fixed Output Options(V): 2.8; Iout(Max)(A): 0.2; Iq(Typ)(mA): 0.02; SubFamily: Single Channel LDO; Vdo(Typ)(mV): 250; Vin(Max)(V): 5.5; Vin(Min)(V): 2; DatasheetVersion: SBVS153C; PackageVersion: 4210367/D; PackageReference: DQN4-480X480TP; PackageDescription: 4-Pin Plastic Small Outline, Body 1 x 1 mm, Pitch 0.65 mm; Supplier 1: Digi-Key; Supplier Part Number 1: TLV70728PDQNR-ND; Supplier 2: Newark; Supplier Part Number 2: 40T5401; Supplier 3: Mouser; Supplier Part Number 3: 595-TLV70728PDQNR; Eco-Plan: Green (RoHS & no Sb/Br); Vout Adj(Max)(V): 2.8; Vout Adj(Min)(V): 2.8; Mounting Technology: Surface Mount; ComponentLink1Description: Manufacturer URL; ComponentLink1URL: http://www.ti.com/; ComponentLink2Description: Datasheet; ComponentLink2URL: http://www.ti.com/general/docs/lit/getliterature.tsp?genericPartNumber=TLV70728P&fileType=pdf
footprint TI-DQN4-480X480TP_V (SON, 4-Leads, Body 1x1mm, Pitch 0.65mm, Thermal Pad 0.5x0.5mm)
pins: 1 OUT (power) "Regulated output voltage pin. A small 1 uF ceramic capacitor is needed from this pin to ground to assure stability.", 2 GND (power) "Ground pin", 3 EN (in) "Enable pin. Driving EN over 0.9 V turns on the regulator. Driving EN below 0.4 V puts the regulator into shutdown mode For TLV707xxP, output voltage is discharged through an internal 120-ohm resistor when device is shut down.", 4 IN (power) "Input pin. A small 1uF ceramic capacitor is recommended from this pin to ground for good transient performance.", 5 EP "Exposed thermal pad"

## TLV70728PDQNT
designator U?
Single Output Low Noise LDO, 200 mA, Fixed 2.8 V Output, 2 to 5.5 V Input, 4-pin X2SON (DQN), -40 to 85 degC, Green (RoHS & no Sb/Br); Manufacturer: Texas Instruments; PartNumber: TLV70728PDQNT; Accuracy(%): 1.5; Fixed Output Options(V): 2.8; Iout(Max)(A): 0.2; Iq(Typ)(mA): 0.02; SubFamily: Single Channel LDO; Vdo(Typ)(mV): 250; Vin(Max)(V): 5.5; Vin(Min)(V): 2; DatasheetVersion: SBVS153C; PackageVersion: 4210367/D; PackageReference: DQN4-480X480TP; PackageDescription: 4-Pin Plastic Small Outline, Body 1 x 1 mm, Pitch 0.65 mm; Supplier 1: Digi-Key; Supplier Part Number 1: 296-28353-2-ND; Supplier 2: Digi-Key; Supplier Part Number 2: 296-28353-1-ND; Supplier 3: Digi-Key; Supplier Part Number 3: 296-28353-6-ND; Supplier 4: Mouser; Supplier Part Number 4: 595-TLV70728PDQNT; Eco-Plan: Green (RoHS & no Sb/Br); Vout Adj(Max)(V): 2.8; Vout Adj(Min)(V): 2.8; Mounting Technology: Surface Mount; ComponentLink1Description: Manufacturer URL; ComponentLink1URL: http://www.ti.com/; ComponentLink2Description: Datasheet; ComponentLink2URL: http://www.ti.com/general/docs/lit/getliterature.tsp?genericPartNumber=TLV70728P&fileType=pdf
footprint TI-DQN4-480X480TP_V (SON, 4-Leads, Body 1x1mm, Pitch 0.65mm, Thermal Pad 0.5x0.5mm)
pins: 1 OUT (power) "Regulated output voltage pin. A small 1 uF ceramic capacitor is needed from this pin to ground to assure stability.", 2 GND (power) "Ground pin", 3 EN (in) "Enable pin. Driving EN over 0.9 V turns on the regulator. Driving EN below 0.4 V puts the regulator into shutdown mode For TLV707xxP, output voltage is discharged through an internal 120-ohm resistor when device is shut down.", 4 IN (power) "Input pin. A small 1uF ceramic capacitor is recommended from this pin to ground for good transient performance.", 5 EP "Exposed thermal pad"

## TLV70730PDQNR
designator U?
Single Output Low Noise LDO, 200 mA, Fixed 3 V Output, 2 to 5.5 V Input, 4-pin X2SON(DQN), -40 to 85 degC, Green (RoHS & no Sb/Br); Manufacturer: Texas Instruments; PartNumber: TLV70730PDQNR; Accuracy(%): 1.5; Fixed Output Options(V): 3; Iout(Max)(A): 0.2; Iq(Typ)(mA): 0.02; SubFamily: Single Channel LDO; Vdo(Typ)(mV): 250; Vin(Max)(V): 5.5; Vin(Min)(V): 2; DatasheetVersion: SBVS153C; PackageVersion: 4210367/D; PackageReference: DQN4-480X480TP; PackageDescription: 4-Pin Plastic Small Outline, Body 1 x 1 mm, Pitch 0.65 mm; Supplier 1: Digi-Key; Supplier Part Number 1: TLV70730PDQNR-ND; Supplier 2: Newark; Supplier Part Number 2: 40T5405; Supplier 3: Mouser; Supplier Part Number 3: 595-TLV70730PDQNR; Eco-Plan: Green (RoHS & no Sb/Br); Vout Adj(Max)(V): 3; Vout Adj(Min)(V): 3; Mounting Technology: Surface Mount; ComponentLink1Description: Manufacturer URL; ComponentLink1URL: http://www.ti.com/; ComponentLink2Description: Datasheet; ComponentLink2URL: http://www.ti.com/general/docs/lit/getliterature.tsp?genericPartNumber=TLV70730P&fileType=pdf
footprint TI-DQN4-480X480TP_V (SON, 4-Leads, Body 1x1mm, Pitch 0.65mm, Thermal Pad 0.5x0.5mm)
pins: 1 OUT (power) "Regulated output voltage pin. A small 1 uF ceramic capacitor is needed from this pin to ground to assure stability.", 2 GND (power) "Ground pin", 3 EN (in) "Enable pin. Driving EN over 0.9 V turns on the regulator. Driving EN below 0.4 V puts the regulator into shutdown mode For TLV707xxP, output voltage is discharged through an internal 120-ohm resistor when device is shut down.", 4 IN (power) "Input pin. A small 1uF ceramic capacitor is recommended from this pin to ground for good transient performance.", 5 EP "Exposed thermal pad"

## TLV70730PDQNT
designator U?
Single Output Low Noise LDO, 200 mA, Fixed 3 V Output, 2 to 5.5 V Input, 4-pin X2SON(DQN), -40 to 85 degC, Green (RoHS & no Sb/Br); Manufacturer: Texas Instruments; PartNumber: TLV70730PDQNT; Accuracy(%): 1.5; Fixed Output Options(V): 3; Iout(Max)(A): 0.2; Iq(Typ)(mA): 0.02; SubFamily: Single Channel LDO; Vdo(Typ)(mV): 250; Vin(Max)(V): 5.5; Vin(Min)(V): 2; DatasheetVersion: SBVS153C; PackageVersion: 4210367/D; PackageReference: DQN4-480X480TP; PackageDescription: 4-Pin Plastic Small Outline, Body 1 x 1 mm, Pitch 0.65 mm; Supplier 1: Digi-Key; Supplier Part Number 1: 296-28354-2-ND; Supplier 2: Digi-Key; Supplier Part Number 2: 296-28354-1-ND; Supplier 3: Digi-Key; Supplier Part Number 3: 296-28354-6-ND; Supplier 4: Newark; Supplier Part Number 4: 40T5406; Supplier 5: Mouser; Supplier Part Number 5: 595-TLV70730PDQNT; Eco-Plan: Green (RoHS & no Sb/Br); Vout Adj(Max)(V): 3; Vout Adj(Min)(V): 3; Mounting Technology: Surface Mount; ComponentLink1Description: Manufacturer URL; ComponentLink1URL: http://www.ti.com/; ComponentLink2Description: Datasheet; ComponentLink2URL: http://www.ti.com/general/docs/lit/getliterature.tsp?genericPartNumber=TLV70730P&fileType=pdf
footprint TI-DQN4-480X480TP_V (SON, 4-Leads, Body 1x1mm, Pitch 0.65mm, Thermal Pad 0.5x0.5mm)
pins: 1 OUT (power) "Regulated output voltage pin. A small 1 uF ceramic capacitor is needed from this pin to ground to assure stability.", 2 GND (power) "Ground pin", 3 EN (in) "Enable pin. Driving EN over 0.9 V turns on the regulator. Driving EN below 0.4 V puts the regulator into shutdown mode For TLV707xxP, output voltage is discharged through an internal 120-ohm resistor when device is shut down.", 4 IN (power) "Input pin. A small 1uF ceramic capacitor is recommended from this pin to ground for good transient performance.", 5 EP "Exposed thermal pad"

## TLV70733DQNR
designator U?
Single Output Low Noise LDO, 200 mA, Fixed 3.3 V Output, 2 to 5.5 V Input, 4-pin X2SON(DQN), -40 to 85 degC, Green (RoHS & no Sb/Br); Manufacturer: Texas Instruments; PartNumber: TLV70733DQNR; Accuracy(%): 1.5; Fixed Output Options(V): 3.3; Iout(Max)(A): 0.2; Iq(Typ)(mA): 0.02; SubFamily: Single Channel LDO; Vdo(Typ)(mV): 250; Vin(Max)(V): 5.5; Vin(Min)(V): 2; DatasheetVersion: SBVS153C; PackageVersion: 4210367/D; PackageReference: DQN4-480X480TP; PackageDescription: 4-Pin Plastic Small Outline, Body 1 x 1 mm, Pitch 0.65 mm; Supplier 1: Digi-Key; Supplier Part Number 1: TLV70733DQNR-ND; Supplier 2: Newark; Supplier Part Number 2: 53W1911; Supplier 3: Mouser; Supplier Part Number 3: 595-TLV70733DQNR; Eco-Plan: Green (RoHS & no Sb/Br); Vout Adj(Max)(V): 3.3; Vout Adj(Min)(V): 3.3; Mounting Technology: Surface Mount; ComponentLink1Description: Manufacturer URL; ComponentLink1URL: http://www.ti.com/; ComponentLink2Description: Datasheet; ComponentLink2URL: http://www.ti.com/general/docs/lit/getliterature.tsp?genericPartNumber=TLV70733&fileType=pdf
footprint TI-DQN4-480X480TP_V (SON, 4-Leads, Body 1x1mm, Pitch 0.65mm, Thermal Pad 0.5x0.5mm)
pins: 1 OUT (power) "Regulated output voltage pin. A small 1 uF ceramic capacitor is needed from this pin to ground to assure stability.", 2 GND (power) "Ground pin", 3 EN (in) "Enable pin. Driving EN over 0.9 V turns on the regulator. Driving EN below 0.4 V puts the regulator into shutdown mode For TLV707xxP, output voltage is discharged through an internal 120-ohm resistor when device is shut down.", 4 IN (power) "Input pin. A small 1uF ceramic capacitor is recommended from this pin to ground for good transient performance.", 5 EP "Exposed thermal pad"

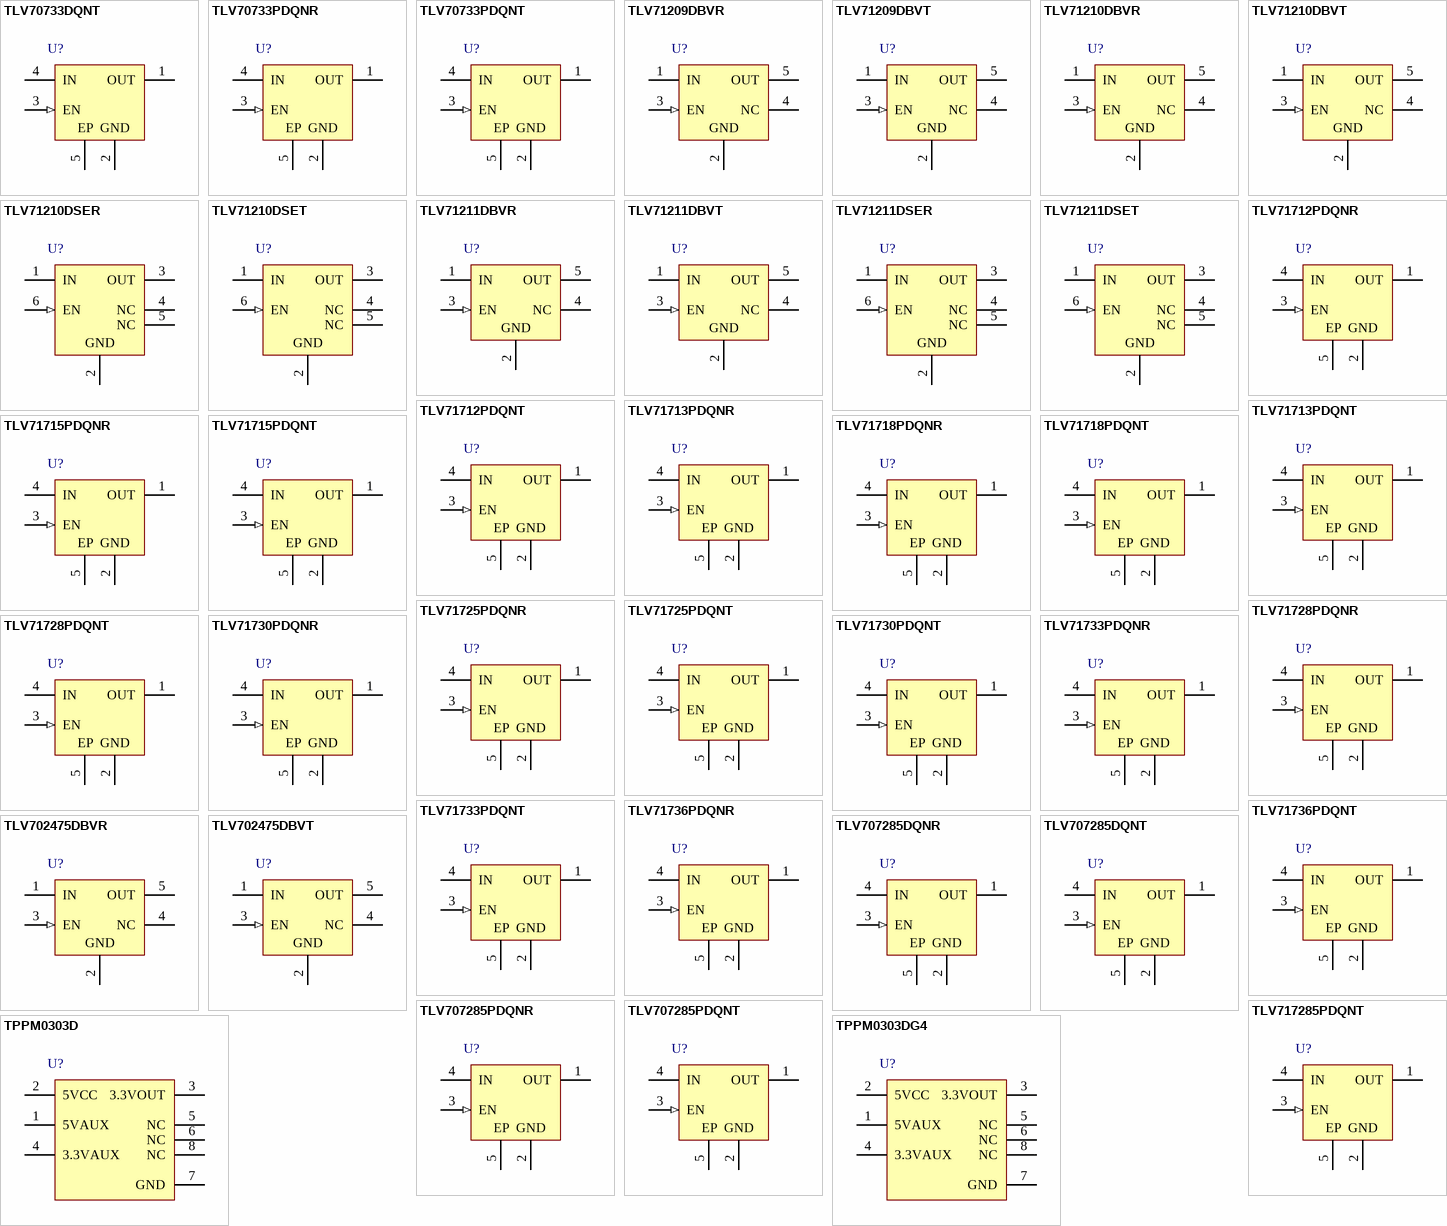
[diagram p7: symbols TLV70733DQNT to TPPM0303DG4]

## TLV70733DQNT
designator U?
Single Output Low Noise LDO, 200 mA, Fixed 3.3 V Output, 2 to 5.5 V Input, 4-pin X2SON(DQN), -40 to 85 degC, Green (RoHS & no Sb/Br); Manufacturer: Texas Instruments; PartNumber: TLV70733DQNT; Accuracy(%): 1.5; Fixed Output Options(V): 3.3; Iout(Max)(A): 0.2; Iq(Typ)(mA): 0.02; SubFamily: Single Channel LDO; Vdo(Typ)(mV): 250; Vin(Max)(V): 5.5; Vin(Min)(V): 2; DatasheetVersion: SBVS153C; PackageVersion: 4210367/D; PackageReference: DQN4-480X480TP; PackageDescription: 4-Pin Plastic Small Outline, Body 1 x 1 mm, Pitch 0.65 mm; Supplier 1: Digi-Key; Supplier Part Number 1: TLV70733DQNT-ND; Supplier 2: Newark; Supplier Part Number 2: 53W1913; Supplier 3: Mouser; Supplier Part Number 3: 595-TLV70733DQNT; Eco-Plan: Green (RoHS & no Sb/Br); Vout Adj(Max)(V): 3.3; Vout Adj(Min)(V): 3.3; Mounting Technology: Surface Mount; ComponentLink1Description: Manufacturer URL; ComponentLink1URL: http://www.ti.com/; ComponentLink2Description: Datasheet; ComponentLink2URL: http://www.ti.com/general/docs/lit/getliterature.tsp?genericPartNumber=TLV70733&fileType=pdf
footprint TI-DQN4-480X480TP_V (SON, 4-Leads, Body 1x1mm, Pitch 0.65mm, Thermal Pad 0.5x0.5mm)
pins: 1 OUT (power) "Regulated output voltage pin. A small 1 uF ceramic capacitor is needed from this pin to ground to assure stability.", 2 GND (power) "Ground pin", 3 EN (in) "Enable pin. Driving EN over 0.9 V turns on the regulator. Driving EN below 0.4 V puts the regulator into shutdown mode For TLV707xxP, output voltage is discharged through an internal 120-ohm resistor when device is shut down.", 4 IN (power) "Input pin. A small 1uF ceramic capacitor is recommended from this pin to ground for good transient performance.", 5 EP "Exposed thermal pad"

## TLV70733PDQNR
designator U?
Single Output Low Noise LDO, 200 mA, Fixed 3.3 V Output, 2 to 5.5 V Input, 4-pin X2SON(DQN), -40 to 85 degC, Green (RoHS & no Sb/Br); Manufacturer: Texas Instruments; PartNumber: TLV70733PDQNR; Accuracy(%): 1.5; Fixed Output Options(V): 3.3; Iout(Max)(A): 0.2; Iq(Typ)(mA): 0.02; SubFamily: Single Channel LDO; Vdo(Typ)(mV): 250; Vin(Max)(V): 5.5; Vin(Min)(V): 2; DatasheetVersion: SBVS153C; PackageVersion: 4210367/D; PackageReference: DQN4-480X480TP; PackageDescription: 4-Pin Plastic Small Outline, Body 1 x 1 mm, Pitch 0.65 mm; Supplier 1: Digi-Key; Supplier Part Number 1: TLV70733PDQNR-ND; Supplier 2: Newark; Supplier Part Number 2: 40T5407; Supplier 3: Mouser; Supplier Part Number 3: 595-TLV70733PDQNR; Eco-Plan: Green (RoHS & no Sb/Br); Vout Adj(Max)(V): 3.3; Vout Adj(Min)(V): 3.3; Mounting Technology: Surface Mount; ComponentLink1Description: Manufacturer URL; ComponentLink1URL: http://www.ti.com/; ComponentLink2Description: Datasheet; ComponentLink2URL: http://www.ti.com/general/docs/lit/getliterature.tsp?genericPartNumber=TLV70733P&fileType=pdf
footprint TI-DQN4-480X480TP_V (SON, 4-Leads, Body 1x1mm, Pitch 0.65mm, Thermal Pad 0.5x0.5mm)
pins: 1 OUT (power) "Regulated output voltage pin. A small 1 uF ceramic capacitor is needed from this pin to ground to assure stability.", 2 GND (power) "Ground pin", 3 EN (in) "Enable pin. Driving EN over 0.9 V turns on the regulator. Driving EN below 0.4 V puts the regulator into shutdown mode For TLV707xxP, output voltage is discharged through an internal 120-ohm resistor when device is shut down.", 4 IN (power) "Input pin. A small 1uF ceramic capacitor is recommended from this pin to ground for good transient performance.", 5 EP "Exposed thermal pad"